# Altium schematic symbol library Header 2.54 x 6.SchLib: 1 symbol
Pins are listed as number, name and electrical type; pins without a type are passive.

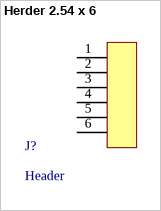
[diagram p0: symbol Herder 2.54 x 6]

## Herder 2.54 x 6
designator J?, comment Header
Cam
footprint Header 2.54 x 6
pins: 1 12, 2 12, 3 12, 4 12, 5 12, 6 12